# Altium footprint library HTSSOP-16.PcbLib: 1 footprints
Each footprint in its own frame and in the unit in brackets; x right, y up, seen from the top. Pads: shape width x height; smd on the part's side, far side on the other; paste and mask are expansions set on the pad; w line width, h text height; cw(c..) or ccw(c..) is an arc to the next point about the centre after c.
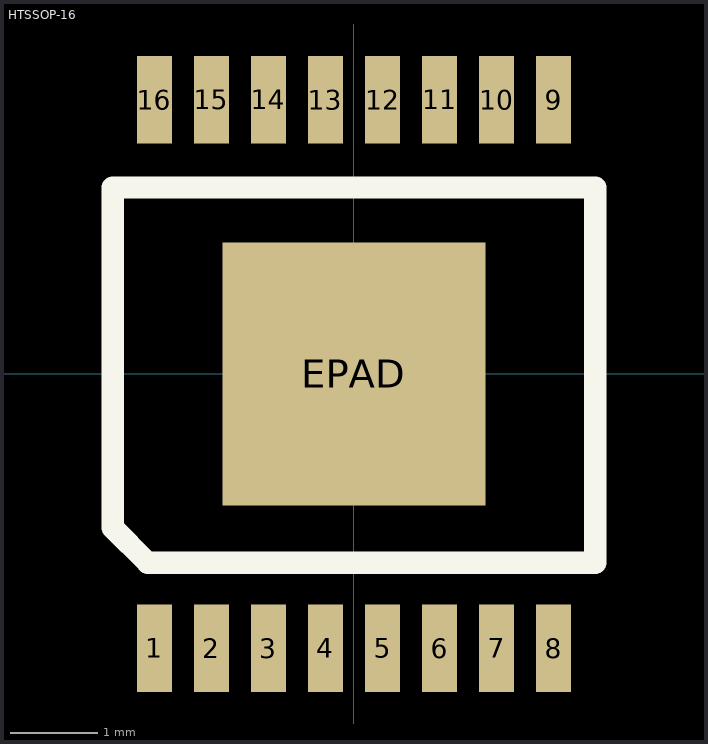
[diagram p0: the footprint, top view; thin cyan lines are the x and y axes]

## HTSSOP-16 [mm] "HTSSOP-16 with Exposed Pad"
height 1.5
pads (17):
  rect 0.4x1 smd: 1(-2.275,-3.125) 2(-1.625,-3.125) 3(-0.975,-3.125) 4(-0.325,-3.125) 5(0.325,-3.125) 6(0.975,-3.125) 7(1.625,-3.125) 8(2.275,-3.125) 9(2.275,3.125) 10(1.625,3.125) 11(0.975,3.125) 12(0.325,3.125) 13(-0.325,3.125) 14(-0.975,3.125) 15(-1.625,3.125) 16(-2.275,3.125)
  rect 3x3 smd: EPAD(0,0)
Top Overlay:
  lines w0.254: -2.75,-1.75 -2.75,2.125 2.75,2.125 2.75,-2.15 -2.35,-2.15 -2.75,-1.75
3D body: height 1.1, standoff 0, extent -2.5,-3.2 2.5,3.2